# Altium schematic symbol library misc.SchLib: 36 symbols
Pins are listed as number, name and electrical type; pins without a type are passive.

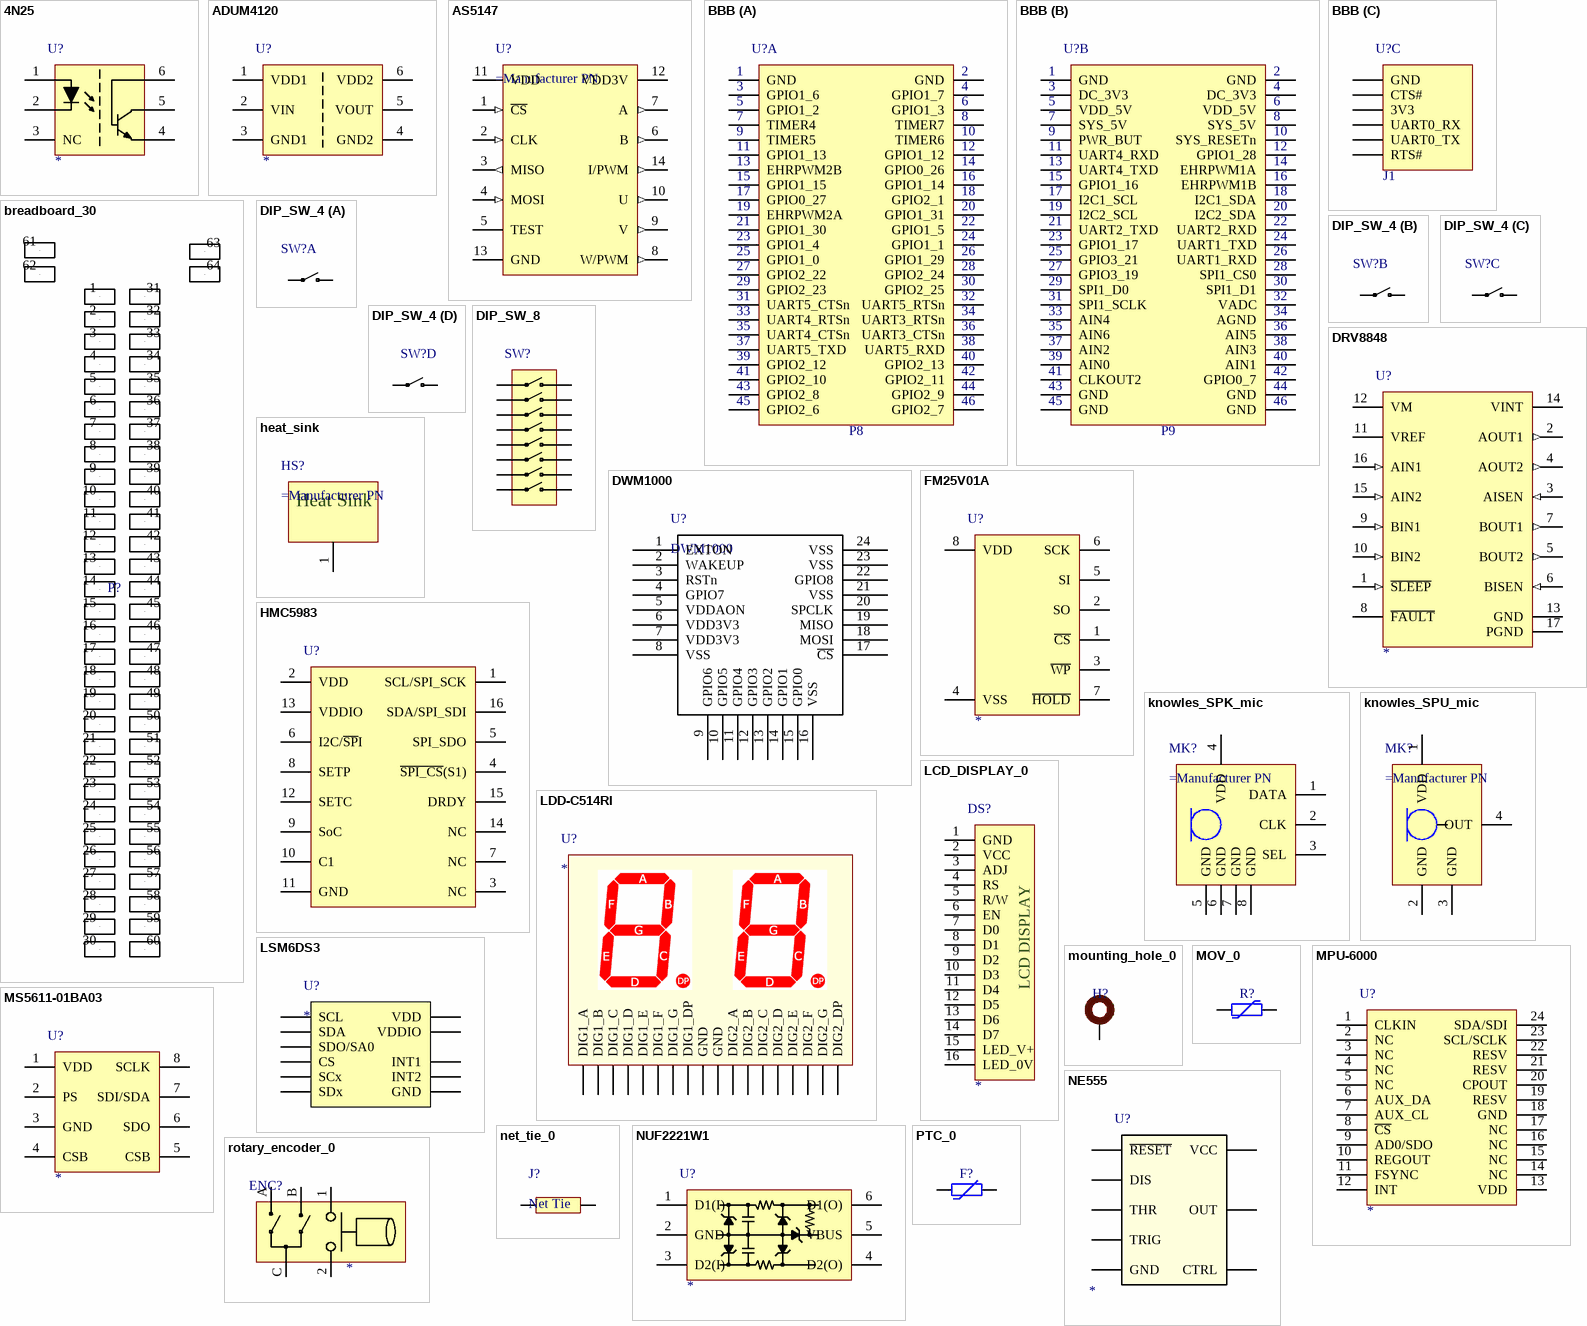
[diagram p0: symbols 4N25 to rotary_encoder_0]

## 4N25
designator U?
Optocoupler, phototransistor output; Manufacturer PN: *
pins: 1 A, 2 A, 3 NC, 4 C, 5 E, 6 B

## ADUM4120
designator U?
Isolated Precision Gate Driver; Manufacturer PN: *
pins: 1 VDD1, 2 VIN, 3 GND1, 4 GND2, 5 VOUT, 6 VDD2

## AS5147
designator U?
14-bit On-Axis Magnetic Rotary Encoder Sensor
pins: 1 ~{CS} (in), 2 CLK (in), 3 MISO (out), 4 MOSI (in), 5 TEST, 6 B (out), 7 A (out), 8 W/PWM (out), 9 V (out), 10 U (out), 11 VDD (power), 12 VDD3V (power), 13 GND (power), 14 I/PWM (out)

## BBB
designator U?  (value not drawn)
Beaglebone Black; Manufacturer PN: *
part A pins: 1 GND, 2 GND, 3 GPIO1_6, 4 GPIO1_7, 5 GPIO1_2, 6 GPIO1_3, 7 TIMER4, 8 TIMER7, 9 TIMER5, 10 TIMER6, 11 GPIO1_13, 12 GPIO1_12, 13 EHRPWM2B, 14 GPIO0_26, 15 GPIO1_15, 16 GPIO1_14, 17 GPIO0_27, 18 GPIO2_1, 19 EHRPWM2A, 20 GPIO1_31, 21 GPIO1_30, 22 GPIO1_5, 23 GPIO1_4, 24 GPIO1_1, 25 GPIO1_0, 26 GPIO1_29, 27 GPIO2_22, 28 GPIO2_24, 29 GPIO2_23, 30 GPIO2_25, 31 UART5_CTSn, 32 UART5_RTSn, 33 UART4_RTSn, 34 UART3_RTSn, 35 UART4_CTSn, 36 UART3_CTSn, 37 UART5_TXD, 38 UART5_RXD, 39 GPIO2_12, 40 GPIO2_13, 41 GPIO2_10, 42 GPIO2_11, 43 GPIO2_8, 44 GPIO2_9, 45 GPIO2_6, 46 GPIO2_7
part B pins: 47 GND, 48 GND, 49 DC_3V3, 50 DC_3V3, 51 VDD_5V, 52 VDD_5V, 53 SYS_5V, 54 SYS_5V, 55 PWR_BUT, 56 SYS_RESETn, 57 UART4_RXD, 58 GPIO1_28, 59 UART4_TXD, 60 EHRPWM1A, 61 GPIO1_16, 62 EHRPWM1B, 63 I2C1_SCL, 64 I2C1_SDA, 65 I2C2_SCL, 66 I2C2_SDA, 67 UART2_TXD, 68 UART2_RXD, 69 GPIO1_17, 70 UART1_TXD, 71 GPIO3_21, 72 UART1_RXD, 73 GPIO3_19, 74 SPI1_CS0, 75 SPI1_D0, 76 SPI1_D1, 77 SPI1_SCLK, 78 VADC, 79 AIN4, 80 AGND, 81 AIN6, 82 AIN5, 83 AIN2, 84 AIN3, 85 AIN0, 86 AIN1, 87 CLKOUT2, 88 GPIO0_7, 89 GND, 90 GND, 91 GND, 92 GND
part C pins: J1_1 GND, J1_2 CTS#, J1_3 3V3, J1_4 UART0_RX, J1_5 UART0_TX, J1_6 RTS#
part A text: P8
part B text: P9
part C text: J1

## breadboard_30
designator P?  (value not drawn)
pins: 1 L1, 2 L2, 3 L3, 4 L4, 5 L5, 6 L6, 7 L7, 8 L8, 9 L9, 10 L10, 11 L11, 12 L12, 13 L13, 14 L14, 15 L15, 16 L16, 17 L17, 18 L18, 19 L19, 20 L20, 21 L21, 22 L22, 23 L23, 24 L24, 25 L25, 26 L26, 27 L27, 28 L28, 29 L29, 30 L30, 31 R1, 32 R2, 33 R3, 34 R4, 35 R5, 36 R6, 37 R7, 38 R8, 39 R9, 40 R10, 41 R11, 42 R12, 43 R13, 44 R14, 45 R15, 46 R16, 47 R17, 48 R18, 49 R19, 50 R20, 51 R21, 52 R22, 53 R23, 54 R24, 55 R25, 56 R26, 57 R27, 58 R28, 59 R29, 60 R30, 61 Rial1, 62 Rail2, 63 Rail3, 64 Rail4

## DIP_SW_4
designator SW?  (value not drawn)
4-Element DIP Switch; Manufacturer PN: *
part A pins: 1, 8
part B pins: 2, 7
part C pins: 3, 6
part D pins: 4, 5

## DIP_SW_8
designator SW?  (value not drawn)
4-Element DIP Switch; Manufacturer PN: *
pins: 1, 2, 3, 4, 5, 6, 7, 8, 9, 10, 11, 12, 13, 14, 15, 16

## DRV8848
designator U?
Quad Half-Bridge Motor Driver, DRV8488; Manufacturer PN: *
pins: 1 ~{SLEEP} (in), 2 AOUT1 (out), 3 AISEN (in), 4 AOUT2 (out), 5 BOUT2 (out), 6 BISEN (in), 7 BOUT1 (out), 8 ~{FAULT} (oc), 9 BIN1 (in), 10 BIN2 (in), 11 VREF, 12 VM (power), 13 GND (power), 14 VINT, 15 AIN2 (in), 16 AIN1 (in), 17 PGND (power)

## DWM1000
designator U?
Ultra Wide-Band transceiver module
pins: 1 EXTON, 2 WAKEUP, 3 RSTn, 4 GPIO7, 5 VDDAON, 6 VDD3V3, 7 VDD3V3, 8 VSS, 9 GPIO6, 10 GPIO5, 11 GPIO4, 12 GPIO3, 13 GPIO2, 14 GPIO1, 15 GPIO0, 16 VSS, 17 ~{CS}, 18 MOSI, 19 MISO, 20 SPCLK, 21 VSS, 22 GPIO8, 23 VSS, 24 VSS

## FM25V01A
designator U?
128-Kbit (16K × 8) Serial (SPI) F-RAM; Manufacturer PN: *
pins: 1 ~{CS}, 2 SO, 3 ~{WP}, 4 VSS, 5 SI, 6 SCK, 7 ~{HOLD}, 8 VDD

## heat_sink
designator HS?
pins: 1 MNT
text: Heat Sink

## HMC5983
designator U?  (value not drawn)
3-Axis Digital Compass IC; Manufacturer PN: *
pins: 1 SCL/SPI_SCK, 2 VDD, 3 NC, 4 ~{SPI_CS}(S1), 5 SPI_SDO, 6 I2C/~{SP}I, 7 NC, 8 SETP, 9 SoC, 10 C1, 11 GND, 12 SETC, 13 VDDIO, 14 NC, 15 DRDY, 16 SDA/SPI_SDI

## knowles_SPK_mic
designator MK?
MEMs Microphone, PDM output
pins: 1 DATA, 2 CLK, 3 SEL, 4 VDD, 5 GND, 6 GND, 7 GND, 8 GND

## knowles_SPU_mic
designator MK?
MEMs microphone, buffered output
pins: 1 VDD, 2 GND, 3 GND, 4 OUT

## LCD_DISPLAY_0
designator DS?
LCD Character Display, 16-pin interface; Manufacturer: *; Manufacturer PN: *
pins: 1 GND (power), 2 VCC (power), 3 ADJ (power), 4 RS (power), 5 R/W (power), 6 EN (power), 7 D0 (power), 8 D1 (power), 9 D2 (power), 10 D3 (power), 11 D4 (power), 12 D5 (power), 13 D6 (power), 14 D7 (power), 15 LED_V+ (power), 16 LED_0V (power)
text: LCD DISPLAY

## LDD-C514RI
designator U?
Dual 7-segment LED display, common cathode
footprint LDD-C514RI
pins: 1 DIG1_E, 2 DIG1_D, 3 DIG1_C, 4 DIG1_DP, 5 DIG2_E, 6 DIG2_D, 7 DIG2_G, 8 DIG2_C, 9 DIG2_DP, 10 DIG2_B, 11 DIG2_A, 12 DIG2_F, 13 GND, 14 GND, 15 DIG1_B, 16 DIG1_A, 17 DIG1_G, 18 DIG1_F

## LSM6DS3
designator U?
Manufacturer PN: *
pins: 1 SDO/SA0, 2 SDx, 3 SCx, 4 INT1, 5 VDDIO (power), 6 GND (power), 7 GND hidden, 8 VDD (power), 9 INT2, 10 NC hidden, 11 NC hidden, 12 CS, 13 SCL, 14 SDA

## mounting_hole_0
designator H?  (value not drawn)
Mounting hole with connection
pins: 0 A

## MOV_0
designator R?  (value not drawn)
pins: 1, 2

## MPU-6000
designator U?
IMU Accel/Gyro, MPU-6000; Manufacturer PN: *
pins: 1 CLKIN, 2 NC, 3 NC, 4 NC, 5 NC, 6 AUX_DA, 7 AUX_CL, 8 ~{CS}, 9 AD0/SDO, 10 REGOUT, 11 FSYNC, 12 INT, 13 VDD, 14 NC, 15 NC, 16 NC, 17 NC, 18 GND, 19 RESV, 20 CPOUT, 21 RESV, 22 RESV, 23 SCL/SCLK, 24 SDA/SDI

## MS5611-01BA03
designator U?
Barometric Pressure Sensor; Manufacturer PN: *
pins: 1 VDD, 2 PS, 3 GND, 4 CSB, 5 CSB, 6 SDO, 7 SDI/SDA, 8 SCLK

## NE555
designator U?
Manufacturer PN: *
pins: 1 GND, 2 TRIG, 3 OUT, 4 ~{RESET}, 5 CTRL, 6 THR, 7 DIS, 8 VCC

## net_tie_0
designator J?, comment Net Tie
pins: 1 NET1 (power), 2 NET2 (power)

## NUF2221W1
designator U?
RC ESD Filter; Manufacturer PN: *
pins: 1 D1(I), 2 GND, 3 D2(I), 4 D2(O), 5 VBUS, 6 D1(O)

## PTC_0
designator F?  (value not drawn)
Positive Temperature Coefficient resettable fuse; TEMP_CO: *
footprint chip_1206
pins: 1, 2

## rotary_encoder_0
designator ENC?
Manufacturer PN: *
pins: 1, 2, A (power), B (power), C (power)

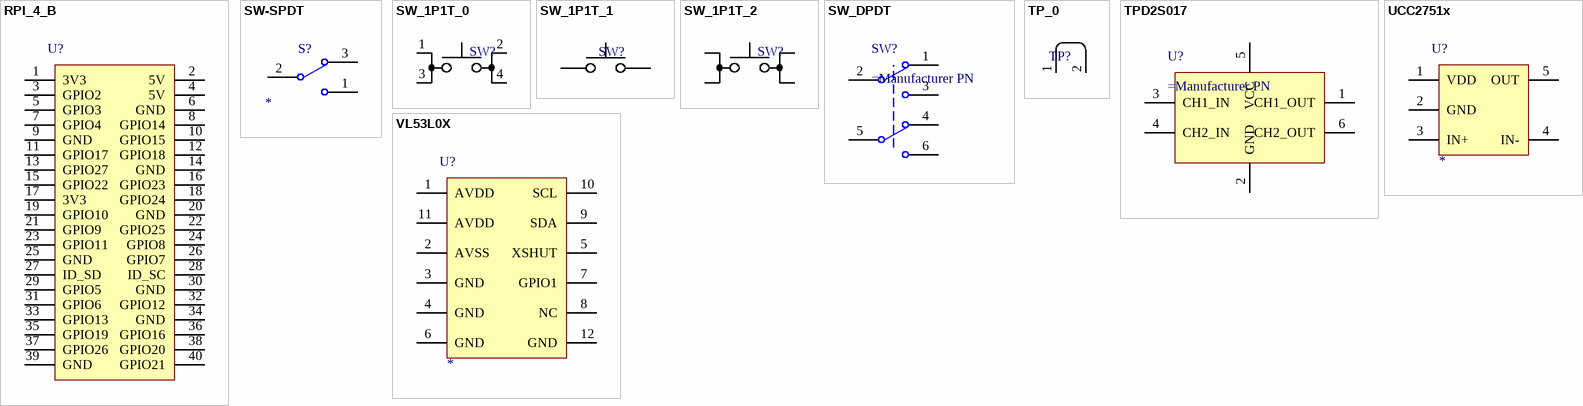
[diagram p1: symbols RPI_4_B to VL53L0X]

## RPI_4_B
designator U?  (value not drawn)
Raspberry Pi Model 4 B; Manufacturer PN: *
pins: 1 3V3, 2 5V, 3 GPIO2, 4 5V, 5 GPIO3, 6 GND, 7 GPIO4, 8 GPIO14, 9 GND, 10 GPIO15, 11 GPIO17, 12 GPIO18, 13 GPIO27, 14 GND, 15 GPIO22, 16 GPIO23, 17 3V3, 18 GPIO24, 19 GPIO10, 20 GND, 21 GPIO9, 22 GPIO25, 23 GPIO11, 24 GPIO8, 25 GND, 26 GPIO7, 27 ID_SD, 28 ID_SC, 29 GPIO5, 30 GND, 31 GPIO6, 32 GPIO12, 33 GPIO13, 34 GND, 35 GPIO19, 36 GPIO16, 37 GPIO26, 38 GPIO20, 39 GND, 40 GPIO21

## SW-SPDT
designator S?
SPDT Switch; Current Rating: *A; ComponentLink1Description: Manufacturer Link; ComponentLink1URL: http://www.apem.com; Manufacturer PN: *
footprint M2012TXG41-DC (SPDT, right angle, thru-hole)
pins: 1, 2, 3

## SW_1P1T_0
designator SW?  (value not drawn)
Switch, 1P1T, (1,3 -> 2,4); Manufacturer PN: *
pins: 1, 2, 3, 4

## SW_1P1T_1
designator SW?  (value not drawn)
Switch, 1P1T
pins: 1, 2

## SW_1P1T_2
designator SW?  (value not drawn)
Switch, 1P1T, (1,2 -> 3,4); Manufacturer PN: *
pins: 1, 2, 3, 4

## SW_DPDT
designator SW?
DPDT Switch (COM: 2,5)
pins: 1, 2, 3, 4, 5, 6

## TP_0
designator TP?  (value not drawn)
Test Point Jumper Link
pins: 1, 2

## TPD2S017
designator U?
ESD Protection IC
pins: 1 CH1_OUT, 2 GND, 3 CH1_IN, 4 CH2_IN, 5 VCC, 6 CH2_OUT

## UCC2751x
designator U?
Gate Driver; Manufacturer PN: *
pins: 1 VDD, 2 GND, 3 IN+, 4 IN-, 5 OUT

## VL53L0X
designator U?
ToF Ranging Sensor; Manufacturer PN: *
pins: 1 AVDD, 2 AVSS, 3 GND, 4 GND, 5 XSHUT, 6 GND, 7 GPIO1, 8 NC, 9 SDA, 10 SCL, 11 AVDD, 12 GND